# EAGLE library part 1X5_GND (library LARS_409_CONNECTORS)
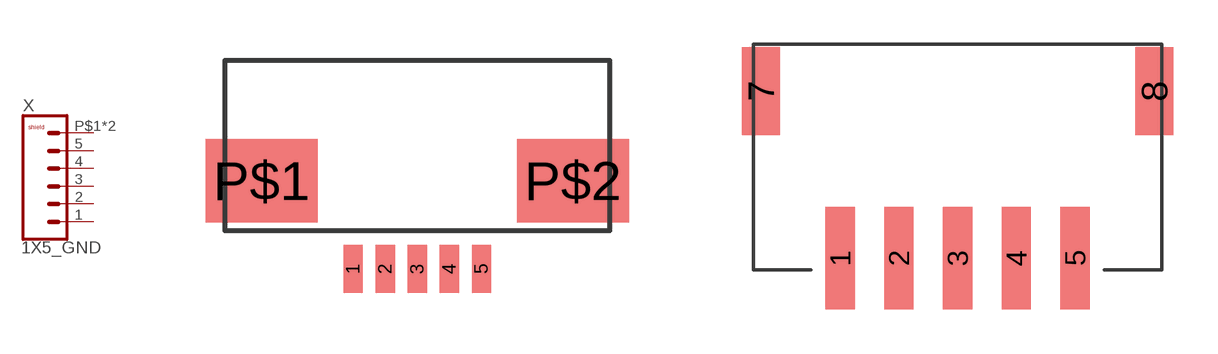
[diagram p10: symbol with the pads of FFC-HOLDER-1MM-5P; footprints FFC-HOLDER-1MM-5P, S5B-PH-SM4-TB]

Designator prefix X

## 1X5_GND  [FFC-HOLDER-1MM-5P]
1  1  pas
2  2  pas
3  3  pas
4  4  pas
5  5  pas
P$1  6  pas
P$2  6  pas

## 1X5_GNDPH-H  [S5B-PH-SM4-TB]
1  1  pas
2  2  pas
3  3  pas
4  4  pas
5  5  pas
7  6  pas
8  6  pas

## 1X5_GNDB5B-PH-SM4-TB  [B5B-PH-SM4-TB]
1  1  pas
2  2  pas
3  3  pas
4  4  pas
5  5  pas
6  6  pas
7  6  pas

## Footprint FFC-HOLDER-1MM-5P (pad centres in mm)
smd 0.6 x 1.5: 1 -2,0; 2 -1,0; 3 0,0; 4 1,0; 5 2,0
smd 3.5 x 2.6: P$1 -4.85,2.75; P$2 4.85,2.75

## Footprint S5B-PH-SM4-TB (pad centres in mm)
smd 1 x 3.5: 1 -4,-2.75; 2 -2,-2.75; 3 0,-2.75; 4 2,-2.75; 5 4,-2.75
smd 1.3 x 3: 7 -6.7,2.95; 8 6.7,2.95

## Footprint B5B-PH-SM4-TB (pad centres in mm)
smd 1 x 5.5: 1 -4,-1; 2 -2,-1; 3 0,-1; 4 2,-1; 5 4,-1
smd 1.6 x 3: 6 -6.4,1.25; 7 6.4,1.25